# Altium footprint library PCB - CONNECTOR - MOLEX - MOLEX KK 0022272071.PCBLIB: 1 footprints
Each footprint in its own frame and in the unit in brackets; x right, y up, seen from the top. Pads: shape width x height; smd on the part's side, far side on the other; paste and mask are expansions set on the pad; w line width, h text height; cw(c..) or ccw(c..) is an arc to the next point about the centre after c.
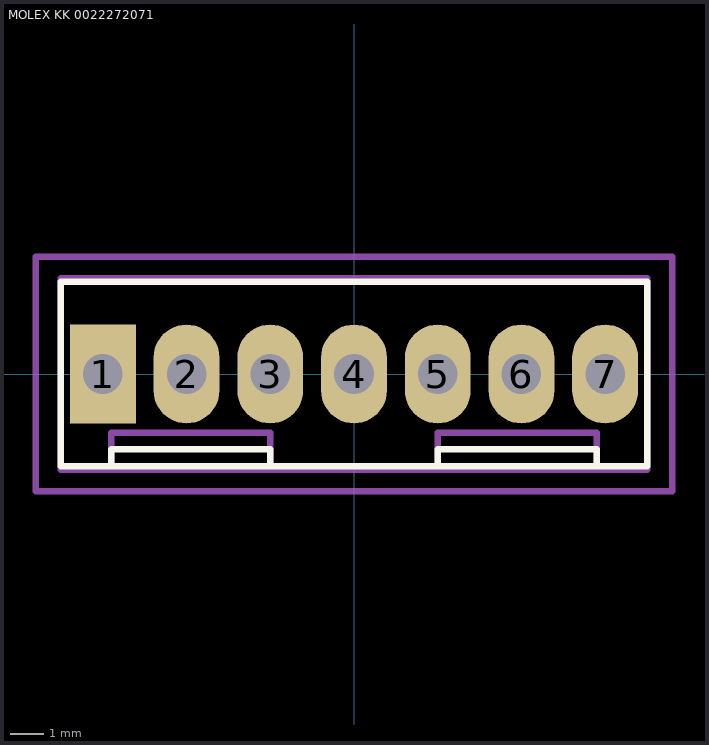
[diagram p0: the footprint, top view; thin cyan lines are the x and y axes]

## MOLEX KK 0022272071 [mm]
height 11.6
pads (7):
  rect 2x3 hole 1.2: 1(-7.62,0)
  oval 2x3 hole 1.2: 2(-5.08,0) 3(-2.54,0) 4(0,0) 5(2.54,0) 6(5.08,0) 7(7.62,0)
Top Overlay:
  lines w0.2: -7.366,-2.794 -7.366,-2.286 -2.54,-2.286 -2.54,-2.794 ; 2.54,-2.794 2.54,-2.286 7.366,-2.286 7.366,-2.794 ; -8.89,-2.794 -8.89,2.794 8.89,2.794 8.89,-2.794 -8.89,-2.794
Top Assembly:
  circle w0.15: c-7.75,0 r0.559
  lines w0.2: -7.366,-2.9 -7.366,-1.778 -2.54,-1.778 -2.54,-2.9 ; 2.54,-2.9 2.54,-1.778 7.366,-1.778 7.366,-2.9 ; -8.89,-2.9 8.89,-2.9 8.89,2.9 -8.89,2.9 -8.89,-2.9
  text ".Designator" at -3.425,-0.344 h1.52
Top Component Center:
  lines w0.2: -0.508,0 0.508,0 ; 0,-0.508 0,0.508
Top Courtyard:
  lines w0.2: -9.652,-3.556 9.652,-3.556 9.652,-1.016 9.652,3.556 -9.652,3.556 -9.652,-3.556
3D body "MOLEX KK 022272071.STEP": height 11.7, standoff -3.56, extent -8.89,-2.9 8.89,2.9